# Altium schematic symbol library myschlib.SchLib: 5 symbols
Pins are listed as number, name and electrical type; pins without a type are passive.

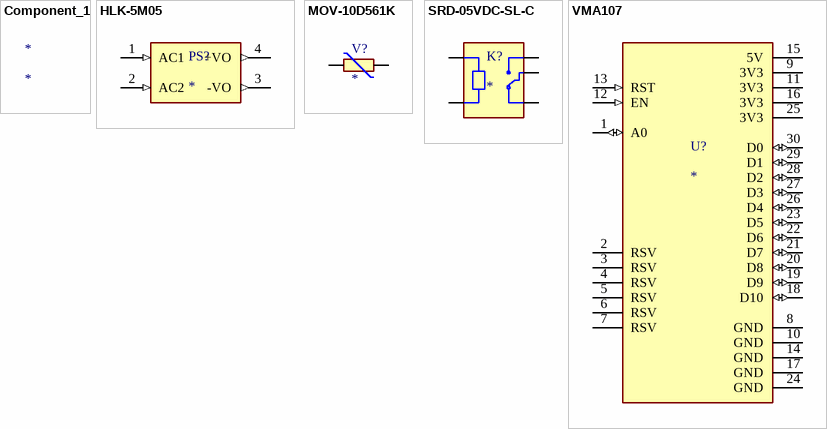
[diagram p0: symbols Component_1 to VMA107]

## Component_1
designator *

## HLK-5M05
designator PS?
AC DC 220V to 5V 5W 5Watt Isolated Switching Step-Down Power Supply Module Converter; MF: Hi-link; MP: HLK-5M05; Check_prices: https://www.snapeda.com/parts/HLK-5M05/Hi-link/view-part/?ref=eda; SnapEDA_Link: https://www.snapeda.com/parts/HLK-5M05/Hi-link/view-part/?ref=snap; Price: None; Availability: Not in stock; Package: Package; Value: *
footprint CONV_HLK-5M05
pins: 1 AC1 (in), 2 AC2 (in), 3 -VO (out), 4 +VO (out)

## MOV-10D561K
designator V?
560 V 2.5 kA Varistor 1 Circuit Through Hole Disc 10mm; MP: MOV-10D561K; MF: Bourns; Value: *; SnapEDA_Link: https://www.snapeda.com/parts/MOV-10D561K/Bourns/view-part/?ref=snap; Purchase-URL: https://pricing.snapeda.com/search/part/MOV-10D561K/?ref=eda; Check_prices: https://www.snapeda.com/parts/MOV-10D561K/Bourns/view-part/?ref=eda; Availability: In Stock; Price: None; Package: Disc-10 Bourns
footprint MOV-10D561
pins: 1, 2

## SRD-05VDC-SL-C
designator K?
5V Trigger Relay Module For Arduino And Raspberry Pi 5V Trigger Relay Module For Arduino And Raspberry Pi; MF: Songle Relay; MP: SRD-05VDC-SL-C; Check_prices: https://www.snapeda.com/parts/SRD-05VDC-SL-C/Songle+Relay/view-part/?ref=eda; Value: *; Availability: Not in stock; Price: None; Package: NON STANDARD-5 Songle Relay; SnapEDA_Link: https://www.snapeda.com/parts/SRD-05VDC-SL-C/Songle+Relay/view-part/?ref=snap
footprint RELAY_SRD-05VDC-SL-C
pins: A1, A2, COM, NC, NO

## VMA107
designator U?
NodeMCU V2 Lua Based ESP8266 Development Board; MF: Velleman; MP: VMA107; Check_prices: https://www.snapeda.com/parts/VMA107/Velleman/view-part/?ref=eda; SnapEDA_Link: https://www.snapeda.com/parts/VMA107/Velleman/view-part/?ref=snap; Availability: Not in stock; Price: None; Value: *; Package: None
footprint MODULE_VMA107
pins: 1 A0 (io), 2 RSV, 3 RSV, 4 RSV, 5 RSV, 6 RSV, 7 RSV, 8 GND (power), 9 3V3 (power), 10 GND (power), 11 3V3 (power), 12 EN (in), 13 RST (in), 14 GND (power), 15 5V (power), 16 3V3 (power), 17 GND (power), 18 D10 (io), 19 D9 (io), 20 D8 (io), 21 D7 (io), 22 D6 (io), 23 D5 (io), 24 GND (power), 25 3V3 (power), 26 D4 (io), 27 D3 (io), 28 D2 (io), 29 D1 (io), 30 D0 (io)